# EAGLE library part IDE_CON_D (library IDE_CON)
IDE CON 4 Pin - 2mm Dual Row Single Wafer, Vertical T/H HDR
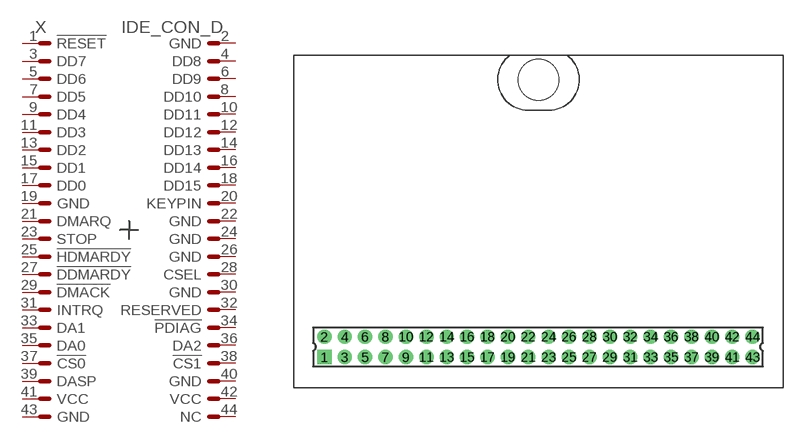
[diagram p0: symbol with the pads of IDE_CON_P; footprint IDE_CON_P]

Designator prefix X

## IDE_CON_D  [IDE_CON_P]
1  !RESET  in
2  GND  pwr
3  DD7
4  DD8
5  DD6
6  DD9
7  DD5
8  DD10
9  DD4
10  DD11
11  DD3
12  DD12
13  DD2
14  DD13
15  DD1
16  DD14
17  DD0
18  DD15
19  GND  pwr
20  KEYPIN  nc
21  DMARQ  out
22  GND  pwr
23  STOP  in
24  GND  pwr
25  !HDMARDY  in
26  GND  pwr
27  !DDMARDY  out
28  CSEL  in
29  !DMACK  in
30  GND  pwr
31  INTRQ  out
32  RESERVED
33  DA1
34  !PDIAG
35  DA0
36  DA2
37  !CS0  in
38  !CS1  in
39  DASP
40  GND  pwr
41  VCC  pwr
42  VCC  pwr
43  GND  pwr
44  NC  nc

## Footprint IDE_CON_P (pad centres in mm)
drill 0.9 pad 1.27 square: 1 0,0
drill 0.9 pad 1.27 round: 2 0,2; 3 2,0; 4 2,2; 5 4,0; 6 4,2; 7 6,0; 8 6,2; 9 8,0; 10 8,2; 11 10,0; 12 10,2; 13 12,0; 14 12,2; 15 14,0; 16 14,2; 17 16,0; 18 16,2; 19 18,0; 20 18,2; 21 20,0; 22 20,2; 23 22,0; 24 22,2; 25 24,0; 26 24,2; 27 26,0; 28 26,2; 29 28,0; 30 28,2; 31 30,0; 32 30,2; 33 32,0; 34 32,2; 35 34,0; 36 34,2; 37 36,0; 38 36,2; 39 38,0; 40 38,2; 41 40,0; 42 40,2; 43 42,0; 44 42,2
hole 4 at 21,27.2